# Altium schematic symbol library SCH - DAC - BUF634AIDR.SCHLIB: 1 symbol
Pins are listed as number, name and electrical type; pins without a type are passive.

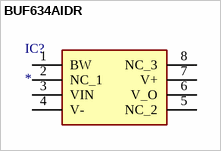
[diagram p0: symbol BUF634AIDR]

## BUF634AIDR
designator IC?
Integrated Circuit; Manufacturer_Name: Texas Instruments; Manufacturer_Part_Number: BUF634AIDR; Datasheet Link: http://www.ti.com/lit/gpn/BUF634A; Height: 1.75mm; Mouser2 Part Number: 595-BUF634AIDR; Mouser2 Price/Stock: https://www.mouser.com/Search/Refine.aspx?Keyword=595-BUF634AIDR
footprint SOIC127P600X175-8N
pins: 1 BW, 2 NC_1, 3 VIN, 4 V-, 5 NC_2, 6 V_O, 7 V+, 8 NC_3